# Altium footprint library CQFP_Sq_65P_Side_N.PcbLib: 1 footprints
Each footprint in its own frame and in the unit in brackets; x right, y up, seen from the top. Pads: shape width x height; smd on the part's side, far side on the other; paste and mask are expansions set on the pad; w line width, h text height; cw(c..) or ccw(c..) is an arc to the next point about the centre after c.
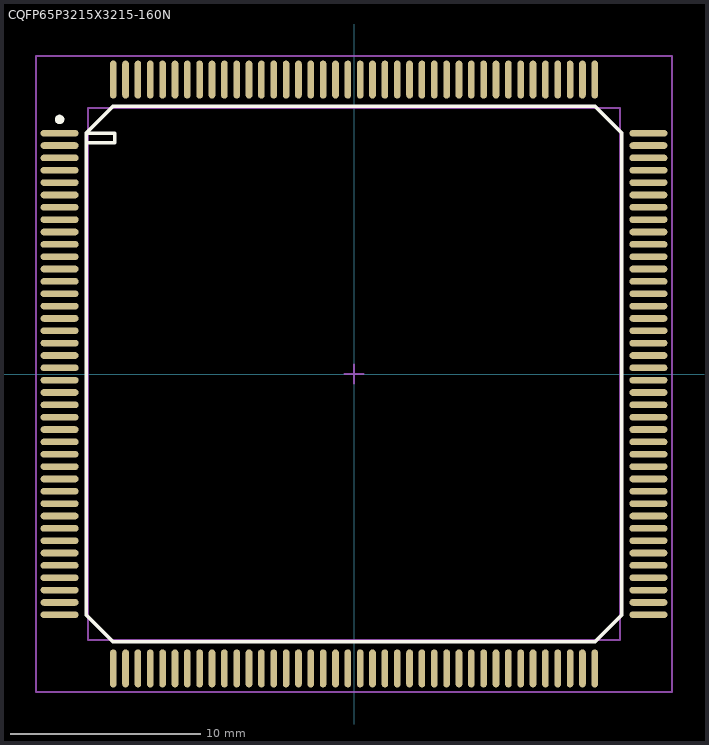
[diagram p0: the footprint, top view; thin cyan lines are the x and y axes]

## CQFP65P3215X3215-160N [mm] "CQFP, 160-Leads, Body 28x28mm; Pitch 0.65mm, Gullwing Leadform, IPC Medium Density"
height 3.4
pads (160):
  oval 2x0.35 smd: 1(-15.5,12.675) 2(-15.5,12.025) 3(-15.5,11.375) 4(-15.5,10.725) 5(-15.5,10.075) 6(-15.5,9.425) 7(-15.5,8.775) 8(-15.5,8.125) 9(-15.5,7.475) 10(-15.5,6.825) 11(-15.5,6.175) 12(-15.5,5.525) 13(-15.5,4.875) 14(-15.5,4.225) 15(-15.5,3.575) 16(-15.5,2.925) 17(-15.5,2.275) 18(-15.5,1.625) 19(-15.5,0.975) 20(-15.5,0.325) 21(-15.5,-0.325) 22(-15.5,-0.975) 23(-15.5,-1.625) 24(-15.5,-2.275) 25(-15.5,-2.925) 26(-15.5,-3.575) 27(-15.5,-4.225) 28(-15.5,-4.875) 29(-15.5,-5.525) 30(-15.5,-6.175) 31(-15.5,-6.825) 32(-15.5,-7.475) 33(-15.5,-8.125) 34(-15.5,-8.775) 35(-15.5,-9.425) 36(-15.5,-10.075) 37(-15.5,-10.725) 38(-15.5,-11.375) 39(-15.5,-12.025) 40(-15.5,-12.675) 81(15.5,-12.675) 82(15.5,-12.025) 83(15.5,-11.375) 84(15.5,-10.725) 85(15.5,-10.075) 86(15.5,-9.425) 87(15.5,-8.775) 88(15.5,-8.125) 89(15.5,-7.475) 90(15.5,-6.825) 91(15.5,-6.175) 92(15.5,-5.525) 93(15.5,-4.875) 94(15.5,-4.225) 95(15.5,-3.575) 96(15.5,-2.925) 97(15.5,-2.275) 98(15.5,-1.625) 99(15.5,-0.975) 100(15.5,-0.325) 101(15.5,0.325) 102(15.5,0.975) 103(15.5,1.625) 104(15.5,2.275) 105(15.5,2.925) 106(15.5,3.575) 107(15.5,4.225) 108(15.5,4.875) 109(15.5,5.525) 110(15.5,6.175) 111(15.5,6.825) 112(15.5,7.475) 113(15.5,8.125) 114(15.5,8.775) 115(15.5,9.425) 116(15.5,10.075) 117(15.5,10.725) 118(15.5,11.375) 119(15.5,12.025) 120(15.5,12.675)
  oval 0.35x2 smd: 41(-12.675,-15.5) 42(-12.025,-15.5) 43(-11.375,-15.5) 44(-10.725,-15.5) 45(-10.075,-15.5) 46(-9.425,-15.5) 47(-8.775,-15.5) 48(-8.125,-15.5) 49(-7.475,-15.5) 50(-6.825,-15.5) 51(-6.175,-15.5) 52(-5.525,-15.5) 53(-4.875,-15.5) 54(-4.225,-15.5) 55(-3.575,-15.5) 56(-2.925,-15.5) 57(-2.275,-15.5) 58(-1.625,-15.5) 59(-0.975,-15.5) 60(-0.325,-15.5) 61(0.325,-15.5) 62(0.975,-15.5) 63(1.625,-15.5) 64(2.275,-15.5) 65(2.925,-15.5) 66(3.575,-15.5) 67(4.225,-15.5) 68(4.875,-15.5) 69(5.525,-15.5) 70(6.175,-15.5) 71(6.825,-15.5) 72(7.475,-15.5) 73(8.125,-15.5) 74(8.775,-15.5) 75(9.425,-15.5) 76(10.075,-15.5) 77(10.725,-15.5) 78(11.375,-15.5) 79(12.025,-15.5) 80(12.675,-15.5) 121(12.675,15.5) 122(12.025,15.5) 123(11.375,15.5) 124(10.725,15.5) 125(10.075,15.5) 126(9.425,15.5) 127(8.775,15.5) 128(8.125,15.5) 129(7.475,15.5) 130(6.825,15.5) 131(6.175,15.5) 132(5.525,15.5) 133(4.875,15.5) 134(4.225,15.5) 135(3.575,15.5) 136(2.925,15.5) 137(2.275,15.5) 138(1.625,15.5) 139(0.975,15.5) 140(0.325,15.5) 141(-0.325,15.5) 142(-0.975,15.5) 143(-1.625,15.5) 144(-2.275,15.5) 145(-2.925,15.5) 146(-3.575,15.5) 147(-4.225,15.5) 148(-4.875,15.5) 149(-5.525,15.5) 150(-6.175,15.5) 151(-6.825,15.5) 152(-7.475,15.5) 153(-8.125,15.5) 154(-8.775,15.5) 155(-9.425,15.5) 156(-10.075,15.5) 157(-10.725,15.5) 158(-11.375,15.5) 159(-12.025,15.5) 160(-12.675,15.5)
Top Overlay:
  circle w0.25: c-15.5,13.4 r0.125
  lines w0.2: -14.1,12.175 -12.6,12.175 -12.6,12.675 -14.1,12.675 ; -14.1,12.675 -14.1,-12.675 -12.675,-14.1 12.675,-14.1 14.1,-12.675 14.1,12.675 12.675,14.1 -12.675,14.1 -14.1,12.675
Mechanical 13:
  lines w0.1: -14,-14 -14,14 14,14 14,-14 -14,-14
Mechanical 15:
  lines w0.1: -0.5,0 0.5,0 ; 0,-0.5 0,0.5 ; -16.75,-16.75 -16.75,16.75 16.75,16.75 16.75,-16.75 -16.75,-16.75
3D body: height 3.4, standoff 0, extent -14,-14 14,14